# EAGLE library part OPENLOG (library customy)
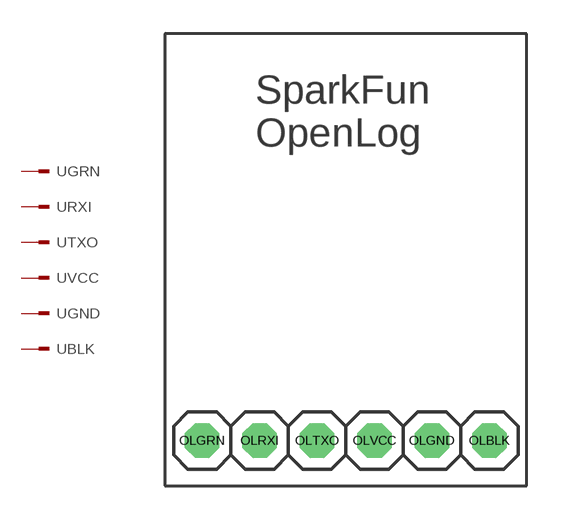
[diagram p2: symbol with the pads of OPENLOG; footprint OPENLOG]

Designator prefix -; gates TXO=PIN RXI=PIN GRN=PIN VCC=PIN GND=PIN BLK=PIN

## OPENLOG  [OPENLOG]
OLBLK  BLK:1  pas
OLGND  GND:1  pas
OLGRN  GRN:1  pas
OLRXI  RXI:1  pas
OLTXO  TXO:1  pas
OLVCC  VCC:1  pas

## Footprint OPENLOG (pad centres in mm)
PIN HEADER
drill 1.016 octagon: OLBLK 6.35,0; OLGND 3.81,0; OLGRN -6.35,0; OLRXI -3.81,0; OLTXO -1.27,0; OLVCC 1.27,0